# EAGLE library part ARDUINO_NANO (library ArduinoNanoV30)
Arduino Nano V3.0 Module Overview: The Arduino Nano is a small, complete, and breadboard-friendly board based on the ATmega328 (Arduino Nano 3.x) or ATmega168 (Arduino Nano 2.x). It has more or less the same functionality of the Arduino Duemilanove, but in a different package. It lacks only a DC power jack, and works with a Mini-B USB cable instead of a standard one. The Nano was designed and is being produced by Gravitech <http://www.gravitech.us/arna30wiatp.html>. General specifications: Item Value Microcontroller Atmel ATmega168 or ATmega328 Operating Voltage (logic level) 5 V Input Voltage (recommended) 7-12 V Input Voltage (limits) 6-20 V Digital I/O Pins 14 (of which 6 provide PWM output) Analog Input Pins 8 DC Current per I/O Pin 40 mA Flash Memory 16 KB (ATmega168) or 32 KB (ATmega328) of which 2 KB used by bootloader SRAM 1 KB (ATmega168) or 2 KB (ATmega328) EEPROM 512 bytes (ATmega168) or 1 KB (ATmega328) Clock Speed 16 MHz Dimensions (Inches) 0.73" x 1.70" Dimensions (mm) 18mm x 45mm Overall height About 9 mm (not including pins) Weigth 5 g Power: The Arduino Nano can be powered via the Mini-B USB connection, 6-20V unregulated external power supply (pin 30), or 5V regulated external power supply (pin 27). The power source is automatically selected to the highest voltage source. Memory: The ATmega168 has 16 KB of flash memory for storing code (of which 2 KB is used for the bootloader); the ATmega328 has 32 KB, (also with 2 KB used for the bootloader). The ATmega168 has 1 KB of SRAM and 512 bytes of EEPROM (which can be read and written with the EEPROM library); the ATmega328 has 2 KB of SRAM and 1 KB of EEPROM. Input and Output: Each of the 14 digital pins on the Nano can be used as an input or output, using pinMode(), digitalWrite(), and digitalRead() functions. They operate at 5 volts. Each pin can provide or receive a maximum of 40 mA and has an internal pull-up resistor (disconnected by default) of 20-50 kOhms. In addition, some pins have specialized functions. Visit Arduino - ArduinoBoardNano <https://www.arduino.cc/en/Main/ArduinoBoardNano>
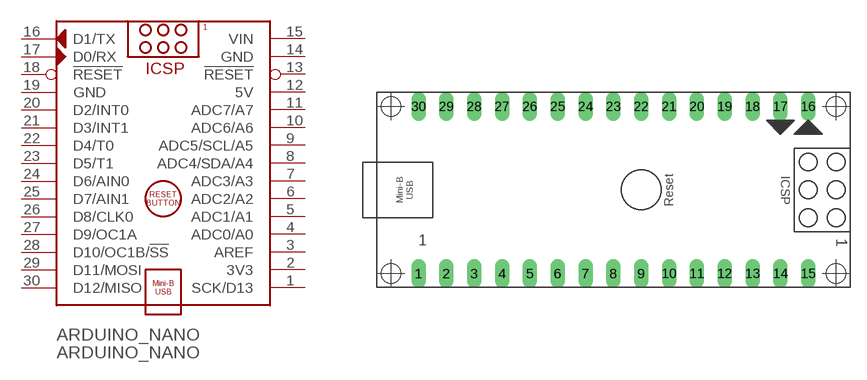
[diagram p0: symbol with the pads of ARDUINO_NANO; footprint ARDUINO_NANO]

Designator prefix ARDUINO_NANO

## ARDUINO_NANO  [ARDUINO_NANO]
1  SCK/D13
2  3V3  out
3  AREF  in
4  ADC0/A0
5  ADC1/A1
6  ADC2/A2
7  ADC3/A3
8  ADC4/SDA/A4
9  ADC5/SCL/A5
10  ADC6/A6
11  ADC7/A7
12  5V  pwr
13  !RESET  in
14  GND  pwr
15  VIN  pwr
16  D1/TX
17  D0/RX
18  !RESET  in
19  GND  pwr
20  D2/INT0
21  D3/INT1
22  D4/T0
23  D5/T1
24  D6/AIN0
25  D7/AIN1
26  D8/CLK0
27  D9/OC1A
28  D10/OC1B/!SS
29  D11/MOSI
30  D12/MISO

## Footprint ARDUINO_NANO (pad centres in mm)
Arduino Nano V3.0 Module The Nano was designed and is being produced by Gravitech <http://www.gravitech.us/arna30wiatp.html>.
drill 0.8 long: 1 -20.32,-7.62; 2 -17.78,-7.62; 3 -15.24,-7.62; 4 -12.7,-7.62; 5 -10.16,-7.62; 6 -7.62,-7.62; 7 -5.08,-7.62; 8 -2.54,-7.62; 9 0,-7.62; 10 2.54,-7.62; 11 5.08,-7.62; 12 7.62,-7.62; 13 10.16,-7.62; 14 12.7,-7.62; 15 15.24,-7.62; 16 15.24,7.62; 17 12.7,7.62; 18 10.16,7.62; 19 7.62,7.62; 20 5.08,7.62; 21 2.54,7.62; 22 0,7.62; 23 -2.54,7.62; 24 -5.08,7.62; 25 -7.62,7.62; 26 -10.16,7.62; 27 -12.7,7.62; 28 -15.24,7.62; 29 -17.78,7.62; 30 -20.32,7.62
hole 1.778 at -22.86,-7.62
hole 1.778 at -22.86,7.62
hole 1.778 at 17.78,7.62
hole 1.778 at 17.78,-7.62